# EAGLE library part AD5344 (library !Treadmill)
Analog Devices 4-Chan Parallel DAC 12-bit
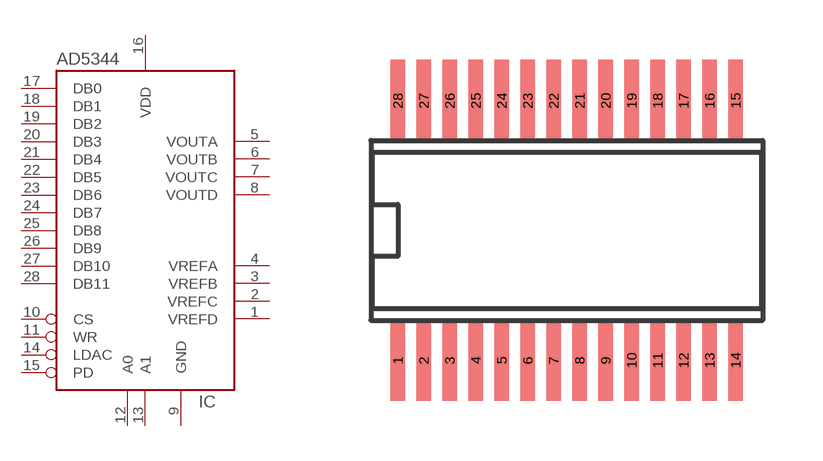
[diagram p2: symbol with the pads of 28-TSSOP; footprint 28-TSSOP]

Designator prefix IC

## AD5344  [28-TSSOP]
1  VREFD  in
2  VREFC  in
3  VREFB  in
4  VREFA  in
5  VOUTA  out
6  VOUTB  out
7  VOUTC  out
8  VOUTD  out
9  GND  pwr
10  CS  in
11  WR  in
12  A0  in
13  A1  in
14  LDAC  in
15  PD  in
16  VDD  pwr
17  DB0  in
18  DB1  in
19  DB2  in
20  DB3  in
21  DB4  in
22  DB5  in
23  DB6  in
24  DB7  in
25  DB8  in
26  DB9  in
27  DB10  in
28  DB11  in

## Footprint 28-TSSOP (pad centres in mm)
28 Lead Thin Shrink Small Outline Package (TSSOP)
smd 0.36 x 2.03: 1 -4.225,-6.5; 2 -3.575,-6.5; 3 -2.925,-6.5; 4 -2.275,-6.5; 5 -1.625,-6.5; 6 -0.975,-6.5; 7 -0.325,-6.5; 8 0.325,-6.5; 9 0.975,-6.5; 10 1.625,-6.5; 11 2.275,-6.5; 12 2.925,-6.5; 13 3.575,-6.5; 14 4.225,-6.5; 15 4.225,0; 16 3.575,0; 17 2.925,0; 18 2.275,0; 19 1.625,0; 20 0.975,0; 21 0.325,0; 22 -0.325,0; 23 -0.975,0; 24 -1.625,0; 25 -2.275,0; 26 -2.925,0; 27 -3.575,0; 28 -4.225,0